# EAGLE library part CA3161E (library be_driver)
drawn: Mario Blunk / Blunk electronic
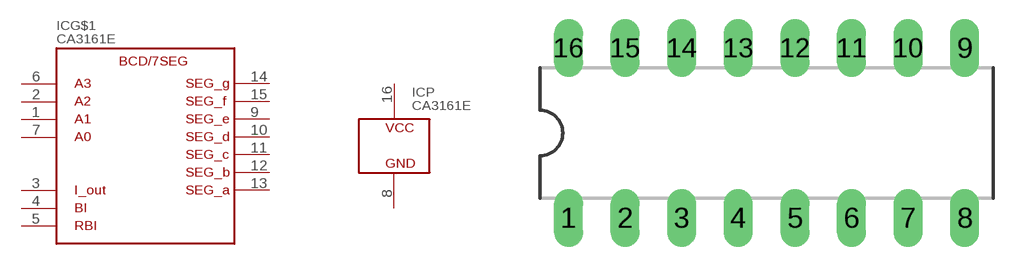
[diagram p8: symbol with the pads of T_NDIP16; footprint T_NDIP16]

Designator prefix IC; gates G$1=BCD-TO-7SEG P=PWR

## CA3161E (BOM: YES; COMMISSIONED: 2015-06-03; PART_CODE_BEL: IC_PAC_T_NDIP16_VAL_CA3161E)  [T_NDIP16]
1  G$1:A1
2  G$1:A2
3  G$1:I_OUT
4  G$1:BI
5  G$1:RBI
6  G$1:A3
7  G$1:A0
8  P:GND  pwr
9  G$1:SEG_E
10  G$1:SEG_D
11  G$1:SEG_C
12  G$1:SEG_B
13  G$1:SEG_A
14  G$1:SEG_G
15  G$1:SEG_F
16  P:VCC  pwr

## Footprint T_NDIP16 (pad centres in mm)
edited: Mario Blunk / Blunk electronic date: 2015-02-03
drill 0.8 long: 1 -8.89,-3.81; 2 -6.35,-3.81; 3 -3.81,-3.81; 4 -1.27,-3.81; 5 1.27,-3.81; 6 3.81,-3.81; 7 6.35,-3.81; 8 8.89,-3.81; 9 8.89,3.81; 10 6.35,3.81; 11 3.81,3.81; 12 1.27,3.81; 13 -1.27,3.81; 14 -3.81,3.81; 15 -6.35,3.81; 16 -8.89,3.81